# EAGLE library part STM32H753ZIT (library dawidkulpa_dev)
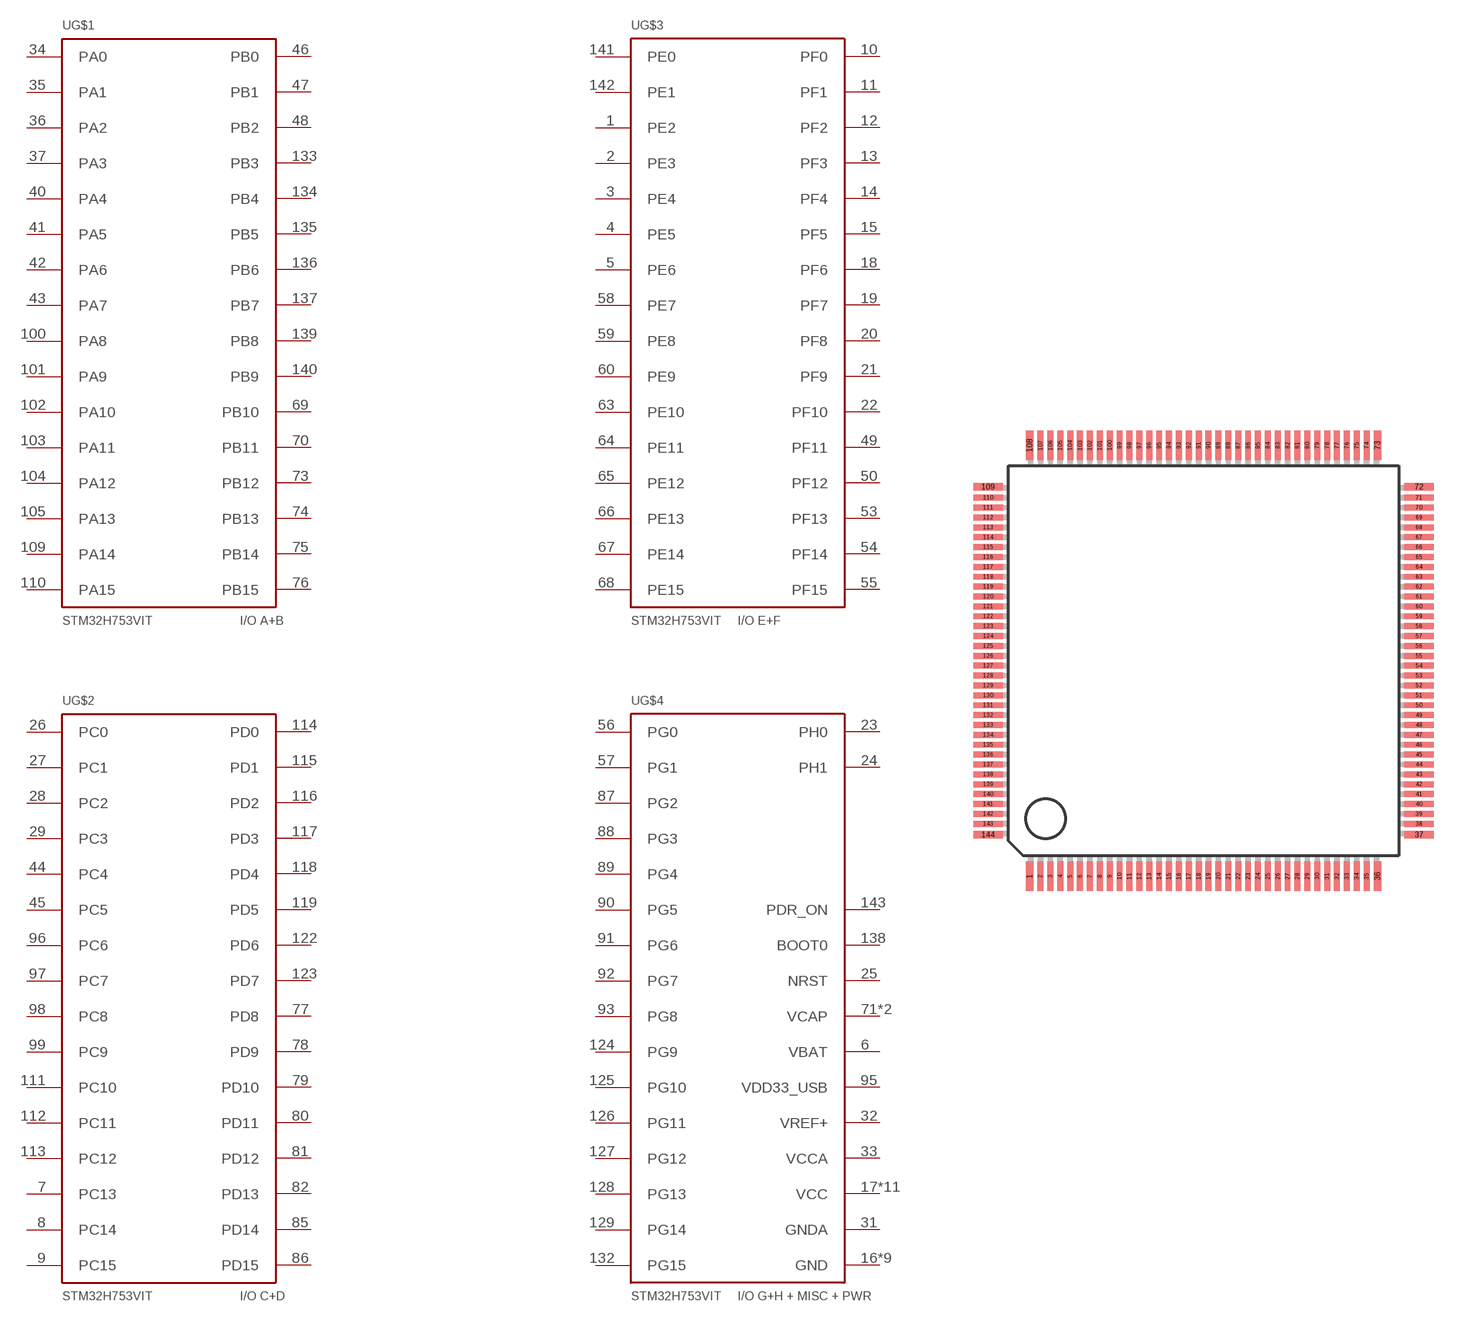
[diagram p37: symbol with the pads of LQFP144; footprint LQFP144]

Designator prefix -; gates G$1=STM32H753ZIT_PART1 G$2=STM32H753ZIT_PART2 G$3=STM32H753ZIT_PART3 G$4=STM32H753ZIT_PART4

## STM32H753ZITLQFP144  [LQFP144]
1  G$3:PE2
2  G$3:PE3
3  G$3:PE4
4  G$3:PE5
5  G$3:PE6
6  G$4:VBAT
7  G$2:PC13
8  G$2:PC14
9  G$2:PC15
10  G$3:PF0
11  G$3:PF1
12  G$3:PF2
13  G$3:PF3
14  G$3:PF4
15  G$3:PF5
16  G$4:GND
17  G$4:VCC
18  G$3:PF6
19  G$3:PF7
20  G$3:PF8
21  G$3:PF9
22  G$3:PF10
23  G$4:PH0
24  G$4:PH1
25  G$4:NRST
26  G$2:PC0
27  G$2:PC1
28  G$2:PC2
29  G$2:PC3
30  G$4:VCC
31  G$4:GNDA
32  G$4:VREF+
33  G$4:VCCA
34  G$1:PA0
35  G$1:PA1
36  G$1:PA2
37  G$1:PA3
38  G$4:GND
39  G$4:VCC
40  G$1:PA4
41  G$1:PA5
42  G$1:PA6
43  G$1:PA7
44  G$2:PC4
45  G$2:PC5
46  G$1:PB0
47  G$1:PB1
48  G$1:PB2
49  G$3:PF11
50  G$3:PF12
51  G$4:GND
52  G$4:VCC
53  G$3:PF13
54  G$3:PF14
55  G$3:PF15
56  G$4:PG0
57  G$4:PG1
58  G$3:PE7
59  G$3:PE8
60  G$3:PE9
61  G$4:GND
62  G$4:VCC
63  G$3:PE10
64  G$3:PE11
65  G$3:PE12
66  G$3:PE13
67  G$3:PE14
68  G$3:PE15
69  G$1:PB10
70  G$1:PB11
71  G$4:VCAP
72  G$4:VCC
73  G$1:PB12
74  G$1:PB13
75  G$1:PB14
76  G$1:PB15
77  G$2:PD8
78  G$2:PD9
79  G$2:PD10
80  G$2:PD11
81  G$2:PD12
82  G$2:PD13
83  G$4:GND
84  G$4:VCC
85  G$2:PD14
86  G$2:PD15
87  G$4:PG2
88  G$4:PG3
89  G$4:PG4
90  G$4:PG5
91  G$4:PG6
92  G$4:PG7
93  G$4:PG8
94  G$4:GND
95  G$4:VDD33_USB
96  G$2:PC6
97  G$2:PC7
98  G$2:PC8
99  G$2:PC9
100  G$1:PA8
101  G$1:PA9
102  G$1:PA10
103  G$1:PA11
104  G$1:PA12
105  G$1:PA13
106  G$4:VCAP
107  G$4:GND
108  G$4:VCC
109  G$1:PA14
110  G$1:PA15
111  G$2:PC10
112  G$2:PC11
113  G$2:PC12
114  G$2:PD0
115  G$2:PD1
116  G$2:PD2
117  G$2:PD3
118  G$2:PD4
119  G$2:PD5
120  G$4:GND
121  G$4:VCC
122  G$2:PD6
123  G$2:PD7
124  G$4:PG9
125  G$4:PG10
126  G$4:PG11
127  G$4:PG12
128  G$4:PG13
129  G$4:PG14
130  G$4:GND
131  G$4:VCC
132  G$4:PG15
133  G$1:PB3
134  G$1:PB4
135  G$1:PB5
136  G$1:PB6
137  G$1:PB7
138  G$4:BOOT0
139  G$1:PB8
140  G$1:PB9
141  G$3:PE0
142  G$3:PE1
143  G$4:PDR_ON
144  G$4:VCC

## Footprint LQFP144 (pad centres in mm)
LQFP144 - Low Profile Quad Flat Package SOT459-1
smd 0.4 x 1.5: 1 -8.8,-10.9; 36 8.8,-10.9; 73 8.8,10.9; 108 -8.8,10.9
smd 0.3 x 1.5: 2 -8.25,-10.9; 3 -7.75,-10.9; 4 -7.25,-10.9; 5 -6.75,-10.9; 6 -6.25,-10.9; 7 -5.75,-10.9; 8 -5.25,-10.9; 9 -4.75,-10.9; 10 -4.25,-10.9; 11 -3.75,-10.9; 12 -3.25,-10.9; 13 -2.75,-10.9; 14 -2.25,-10.9; 15 -1.75,-10.9; 16 -1.25,-10.9; 17 -0.75,-10.9; 18 -0.25,-10.9; 19 0.25,-10.9; 20 0.75,-10.9; 21 1.25,-10.9; 22 1.75,-10.9; 23 2.25,-10.9; 24 2.75,-10.9; 25 3.25,-10.9; 26 3.75,-10.9; 27 4.25,-10.9; 28 4.75,-10.9; 29 5.25,-10.9; 30 5.75,-10.9; 31 6.25,-10.9; 32 6.75,-10.9; 33 7.25,-10.9; 34 7.75,-10.9; 35 8.25,-10.9; 74 8.25,10.9; 75 7.75,10.9; 76 7.25,10.9; 77 6.75,10.9; 78 6.25,10.9; 79 5.75,10.9; 80 5.25,10.9; 81 4.75,10.9; 82 4.25,10.9; 83 3.75,10.9; 84 3.25,10.9; 85 2.75,10.9; 86 2.25,10.9; 87 1.75,10.9; 88 1.25,10.9; 89 0.75,10.9; 90 0.25,10.9; 91 -0.25,10.9; 92 -0.75,10.9; 93 -1.25,10.9; 94 -1.75,10.9; 95 -2.25,10.9; 96 -2.75,10.9; 97 -3.25,10.9; 98 -3.75,10.9; 99 -4.25,10.9; 100 -4.75,10.9; 101 -5.25,10.9; 102 -5.75,10.9; 103 -6.25,10.9; 104 -6.75,10.9; 105 -7.25,10.9; 106 -7.75,10.9; 107 -8.25,10.9
smd 1.5 x 0.4: 37 10.9,-8.8; 72 10.9,8.8; 109 -10.9,8.8; 144 -10.9,-8.8
smd 1.5 x 0.3: 38 10.9,-8.25; 39 10.9,-7.75; 40 10.9,-7.25; 41 10.9,-6.75; 42 10.9,-6.25; 43 10.9,-5.75; 44 10.9,-5.25; 45 10.9,-4.75; 46 10.9,-4.25; 47 10.9,-3.75; 48 10.9,-3.25; 49 10.9,-2.75; 50 10.9,-2.25; 51 10.9,-1.75; 52 10.9,-1.25; 53 10.9,-0.75; 54 10.9,-0.25; 55 10.9,0.25; 56 10.9,0.75; 57 10.9,1.25; 58 10.9,1.75; 59 10.9,2.25; 60 10.9,2.75; 61 10.9,3.25; 62 10.9,3.75; 63 10.9,4.25; 64 10.9,4.75; 65 10.9,5.25; 66 10.9,5.75; 67 10.9,6.25; 68 10.9,6.75; 69 10.9,7.25; 70 10.9,7.75; 71 10.9,8.25; 110 -10.9,8.25; 111 -10.9,7.75; 112 -10.9,7.25; 113 -10.9,6.75; 114 -10.9,6.25; 115 -10.9,5.75; 116 -10.9,5.25; 117 -10.9,4.75; 118 -10.9,4.25; 119 -10.9,3.75; 120 -10.9,3.25; 121 -10.9,2.75; 122 -10.9,2.25; 123 -10.9,1.75; 124 -10.9,1.25; 125 -10.9,0.75; 126 -10.9,0.25; 127 -10.9,-0.25; 128 -10.9,-0.75; 129 -10.9,-1.25; 130 -10.9,-1.75; 131 -10.9,-2.25; 132 -10.9,-2.75; 133 -10.9,-3.25; 134 -10.9,-3.75; 135 -10.9,-4.25; 136 -10.9,-4.75; 137 -10.9,-5.25; 138 -10.9,-5.75; 139 -10.9,-6.25; 140 -10.9,-6.75; 141 -10.9,-7.25; 142 -10.9,-7.75; 143 -10.9,-8.25